# Altium footprint library TC33X-2-104E.PcbLib: 1 footprints
Each footprint in its own frame and in the unit in brackets; x right, y up, seen from the top. Pads: shape width x height; smd on the part's side, far side on the other; paste and mask are expansions set on the pad; w line width, h text height; cw(c..) or ccw(c..) is an arc to the next point about the centre after c.
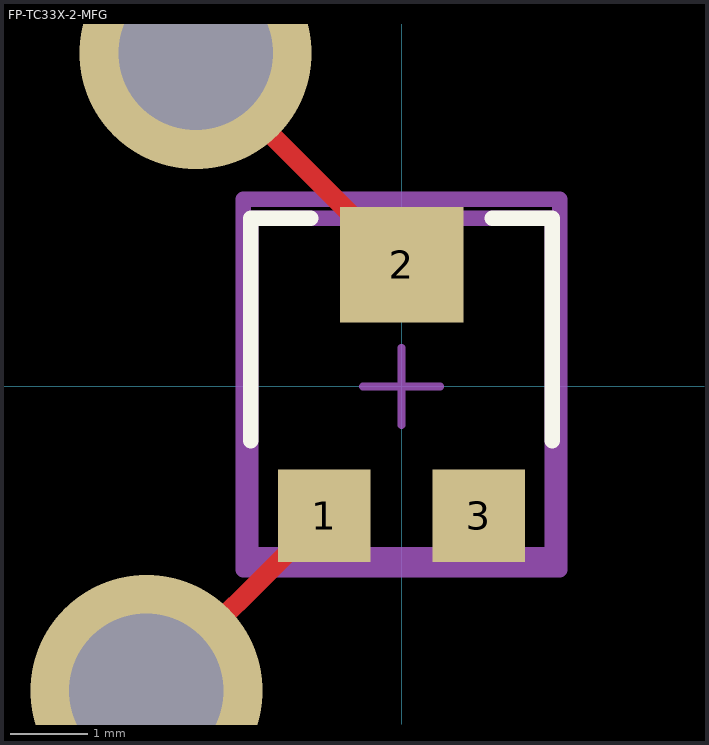
[diagram p0: the footprint, top view; thin cyan lines are the x and y axes]

## FP-TC33X-2-MFG [mm]
pads (3):
  rect 1.2x1.2 smd paste+0 mask+0: 1(-1,-1.675) 3(1,-1.675)
  rect 1.6x1.5 smd paste+0 mask+0: 2(0,1.575)
via -3.302,-3.937 diameter 3 hole 2
via -2.667,4.318 diameter 3 hole 2
Top Layer:
  lines w0.254: -3.282,-3.957 -1,-1.675 ; -2.705,4.28 0,1.575
Top Overlay:
  lines w0.2: -1.95,-0.7 -1.95,2.175 -1.175,2.175 ; 1.175,2.175 1.95,2.175 1.95,-0.7
Top Assembly:
  lines w0.2: -2.05,-2.375 -2.05,2.425 2.05,2.425 2.05,-2.375 -2.05,-2.375
  text ".Designator" at 0,0.024 h1
Top 3D Body:
  lines w0.2: -1.95,-2.175 -1.95,2.175 1.95,2.175 1.95,-2.175 -1.95,-2.175
Top Courtyard:
  lines w0.2: -2.05,-2.375 -2.05,2.425 2.05,2.425 2.05,-2.375 -2.05,-2.375
Top Component Center:
  lines w0.1: -0.5,0 0.5,0 ; 0,-0.5 0,0.5
3D body "Res_Bourns_TC33X-2-104E_eec.STEP": height 0.25, standoff 0, extent -2.05,-2.375 2.05,2.425